# EAGLE library part BIG_EASY_DRIVER_BREAKOUT (library jack_libs)
"A BigEasy Stepper Driver Device. this only has the pinouts for mounting to another pcb"
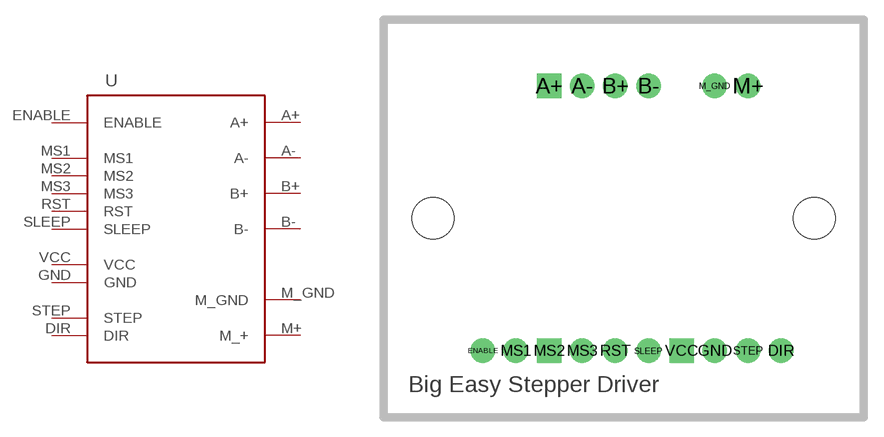
[diagram p0: symbol with the pads of BIG_EASY_DRIVER; footprint BIG_EASY_DRIVER]

Designator prefix -

## BIG_EASY_DRIVER_BREAKOUT  [BIG_EASY_DRIVER]
A+  A+
A-  A-
B+  B+
B-  B-
DIR  DIR
ENABLE  ENABLE
GND  GND
M+  M_+
M_GND  M_GND
MS1  MS1
MS2  MS2
MS3  MS3
RST  RST
SLEEP  SLEEP
STEP  STEP
VCC  VCC

## Footprint BIG_EASY_DRIVER (pad centres in mm)
drill 1.016 pad 1.88 square: A+ 12.7,25.4; MS2 12.7,5.08; VCC 22.86,5.08
drill 1.016 pad 1.88: A- 15.24,25.4; B+ 17.78,25.4; B- 20.32,25.4; DIR 30.48,5.08; ENABLE 7.62,5.08; GND 25.4,5.08; M+ 27.94,25.4; M_GND 25.4,25.4; MS1 10.16,5.08; MS3 15.24,5.08; RST 17.78,5.08; SLEEP 20.32,5.08; STEP 27.94,5.08
hole 3.2 at 3.81,15.24
hole 3.2 at 33.02,15.24